# Altium footprint library RK-386MM.PcbLib: 1 footprints
Each footprint in its own frame and in the unit in brackets; x right, y up, seen from the top. Pads: shape width x height; smd on the part's side, far side on the other; paste and mask are expansions set on the pad; w line width, h text height; cw(c..) or ccw(c..) is an arc to the next point about the centre after c.
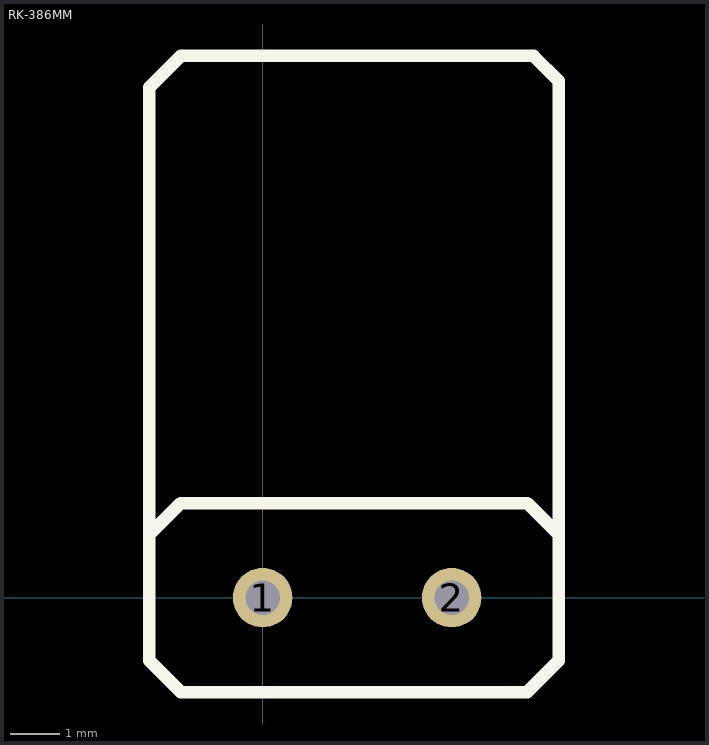
[diagram p0: the footprint, top view; thin cyan lines are the x and y axes]

## RK-386MM [mm]
pads (2):
  round 1.2 hole 0.7: 1(0,0) 2(3.81,0)
Top Overlay:
  lines w0.254: 5.969,1.143 5.969,10.414 5.461,10.922 -1.651,10.922 -2.286,10.287 -2.286,1.27 ; -2.286,1.27 -2.286,0 -2.286,-1.27 -1.651,-1.905 5.334,-1.905 5.969,-1.27 5.969,1.27 5.334,1.905 -1.651,1.905 -2.286,1.27
3D body: height 3.7, standoff 0, extent -2.286,1.905 5.969,10.922